# EAGLE library part ANALOG-DEVICES-E14_AD8426ACPZ-R7 (library GyroDrive)
Wide Supply Range, Rail-to-Rail Output Instrumentation Amplifier
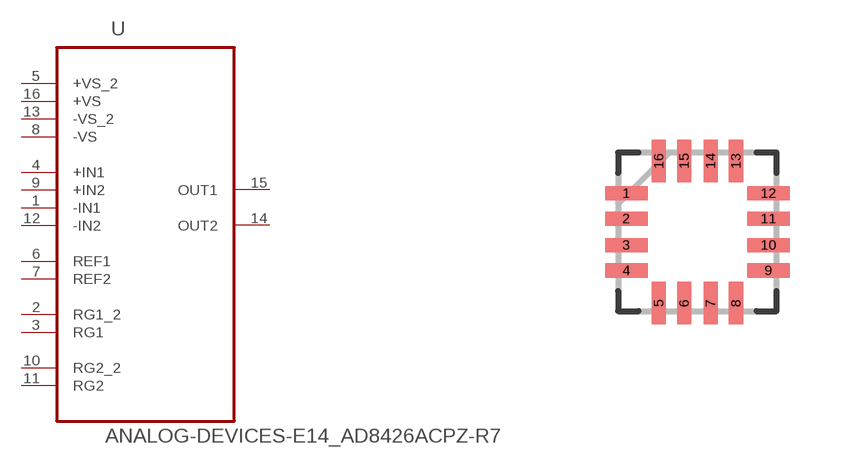
[diagram p0: symbol with the pads of ANALOG-DEVICES-E14_QFN65P400X400X100-16N; footprint ANALOG-DEVICES-E14_QFN65P400X400X100-16N]

Designator prefix U

## ANALOG-DEVICES-E14_AD8426ACPZ-R7 (MPN: AD8426ACPZ-R7; OC_FARNELL: 1971714; OC_NEWARK: 58T4523; PACKAGE: LFCSP-16; SUPPLIER: Analog Devices)  [ANALOG-DEVICES-E14_QFN65P400X400X100-16N]
1  -IN1  pas
2  RG1_2  pas
3  RG1  pas
4  +IN1  pas
5  +VS_2  pas
6  REF1  pas
7  REF2  pas
8  -VS  pas
9  +IN2  pas
10  RG2_2  pas
11  RG2  pas
12  -IN2  pas
13  -VS_2  pas
14  OUT2  pas
15  OUT1  pas
16  +VS  pas

## Footprint ANALOG-DEVICES-E14_QFN65P400X400X100-16N (pad centres in mm)
smd 1.067 x 0.356: 1 -1.778,0.965; 2 -1.778,0.33; 3 -1.778,-0.33; 4 -1.778,-0.965; 9 1.778,-0.965; 10 1.778,-0.33; 11 1.778,0.33; 12 1.778,0.965
smd 0.356 x 1.067: 5 -0.965,-1.778; 6 -0.33,-1.778; 7 0.33,-1.778; 8 0.965,-1.778; 13 0.965,1.778; 14 0.33,1.778; 15 -0.33,1.778; 16 -0.965,1.778